# EAGLE library part 74HC42 (library VinoRodrigues_Custom_Eagle)
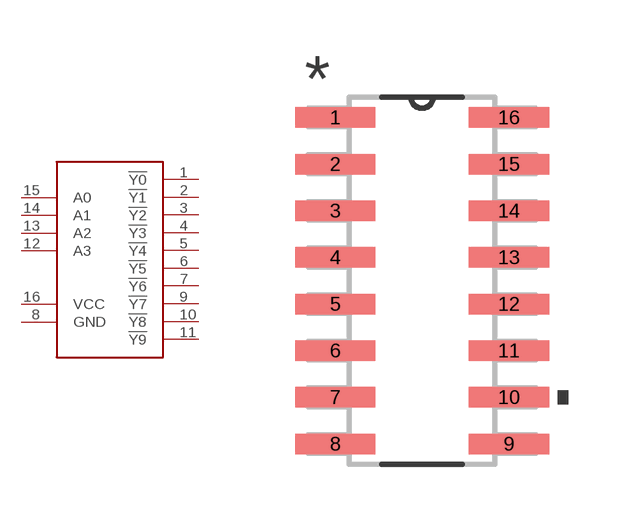
[diagram p11: symbol with the pads of D16; footprint D16]

Designator prefix -

## 74HC42D16  [D16]
1  !Y0
2  !Y1
3  !Y2
4  !Y3
5  !Y4
6  !Y5
7  !Y6
8  GND
9  !Y7
10  !Y8
11  !Y9
12  A3
13  A2
14  A1
15  A0
16  VCC

## Footprint D16 (pad centres in mm)
smd 2.184 x 0.559: 1 -2.362,4.445; 2 -2.362,3.175; 3 -2.362,1.905; 4 -2.362,0.635; 5 -2.362,-0.635; 6 -2.362,-1.905; 7 -2.362,-3.175; 8 -2.362,-4.445; 9 2.362,-4.445; 10 2.362,-3.175; 11 2.362,-1.905; 12 2.362,-0.635; 13 2.362,0.635; 14 2.362,1.905; 15 2.362,3.175; 16 2.362,4.445